# EAGLE library part HC0305 (library HC0305)
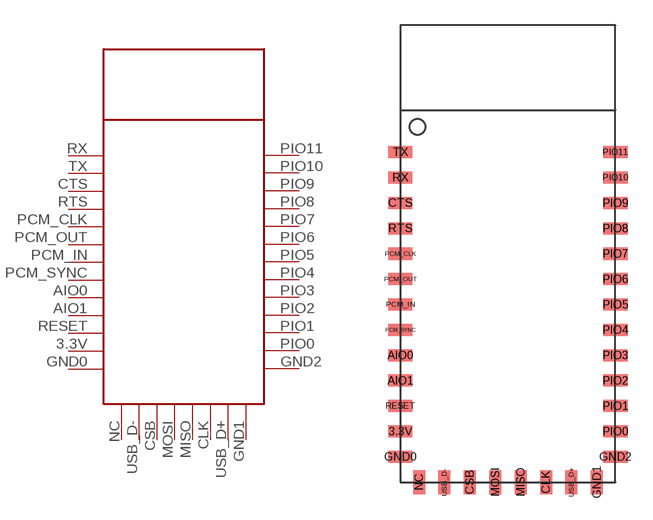
[diagram p0: symbol with the pads of HC0305; footprint HC0305]

Designator prefix -

## HC0305  [HC0305]
3.3V  3.3V
AIO0  AIO0
AIO1  AIO1
CLK  CLK
CSB  CSB
CTS  CTS
GND0  GND0
GND1  GND1
GND2  GND2
MISO  MISO
MOSI  MOSI
NC  NC
PCM_CLK  PCM_CLK
PCM_IN  PCM_IN
PCM_OUT  PCM_OUT
PCM_SYNC  PCM_SNYC
PIO0  PIO0
PIO1  PIO1
PIO2  PIO2
PIO3  PIO3
PIO4  PIO4
PIO5  PIO5
PIO6  PIO6
PIO7  PIO7
PIO8  PIO8
PIO9  PIO9
PIO10  PIO10
PIO11  PIO11
RESET  RESET
RTS  RTS
RX  RX
TX  TX
USB_D+  USB_D+
USB_D-  USB_D-

## Footprint HC0305 (pad centres in mm)
smd 1.422 x 0.711: 3.3V -6,-15; AIO0 -6,-10.5; AIO1 -6,-12; CTS -6,-1.5; GND0 -6,-16.5; GND2 6.7,-16.5; PCM_CLK -6,-4.5; PCM_IN -6,-7.5; PCM_OUT -6,-6; PCM_SYNC -6,-9; PIO0 6.7,-15; PIO1 6.7,-13.5; PIO2 6.7,-12; PIO3 6.7,-10.5; PIO4 6.7,-9; PIO5 6.7,-7.5; PIO6 6.7,-6; PIO7 6.7,-4.5; PIO8 6.7,-3; PIO9 6.7,-1.5; PIO10 6.7,0; PIO11 6.7,1.5; RESET -6,-13.5; RTS -6,-3; RX -6,0; TX -6,1.5
smd 0.711 x 1.422: CLK 2.6,-18; CSB -1.9,-18; GND1 5.6,-18; MISO 1.1,-18; MOSI -0.4,-18; NC -4.9,-18; USB_D+ 4.1,-18; USB_D- -3.4,-18